# Altium footprint library rcl_PTH.PCBLIB: 348 footprints (part 3 of 22)
Each footprint in its own frame and in the unit in brackets; x right, y up, seen from the top. Pads: shape width x height; smd on the part's side, far side on the other; paste and mask are expansions set on the pad; w line width, h text height; cw(c..) or ccw(c..) is an arc to the next point about the centre after c.
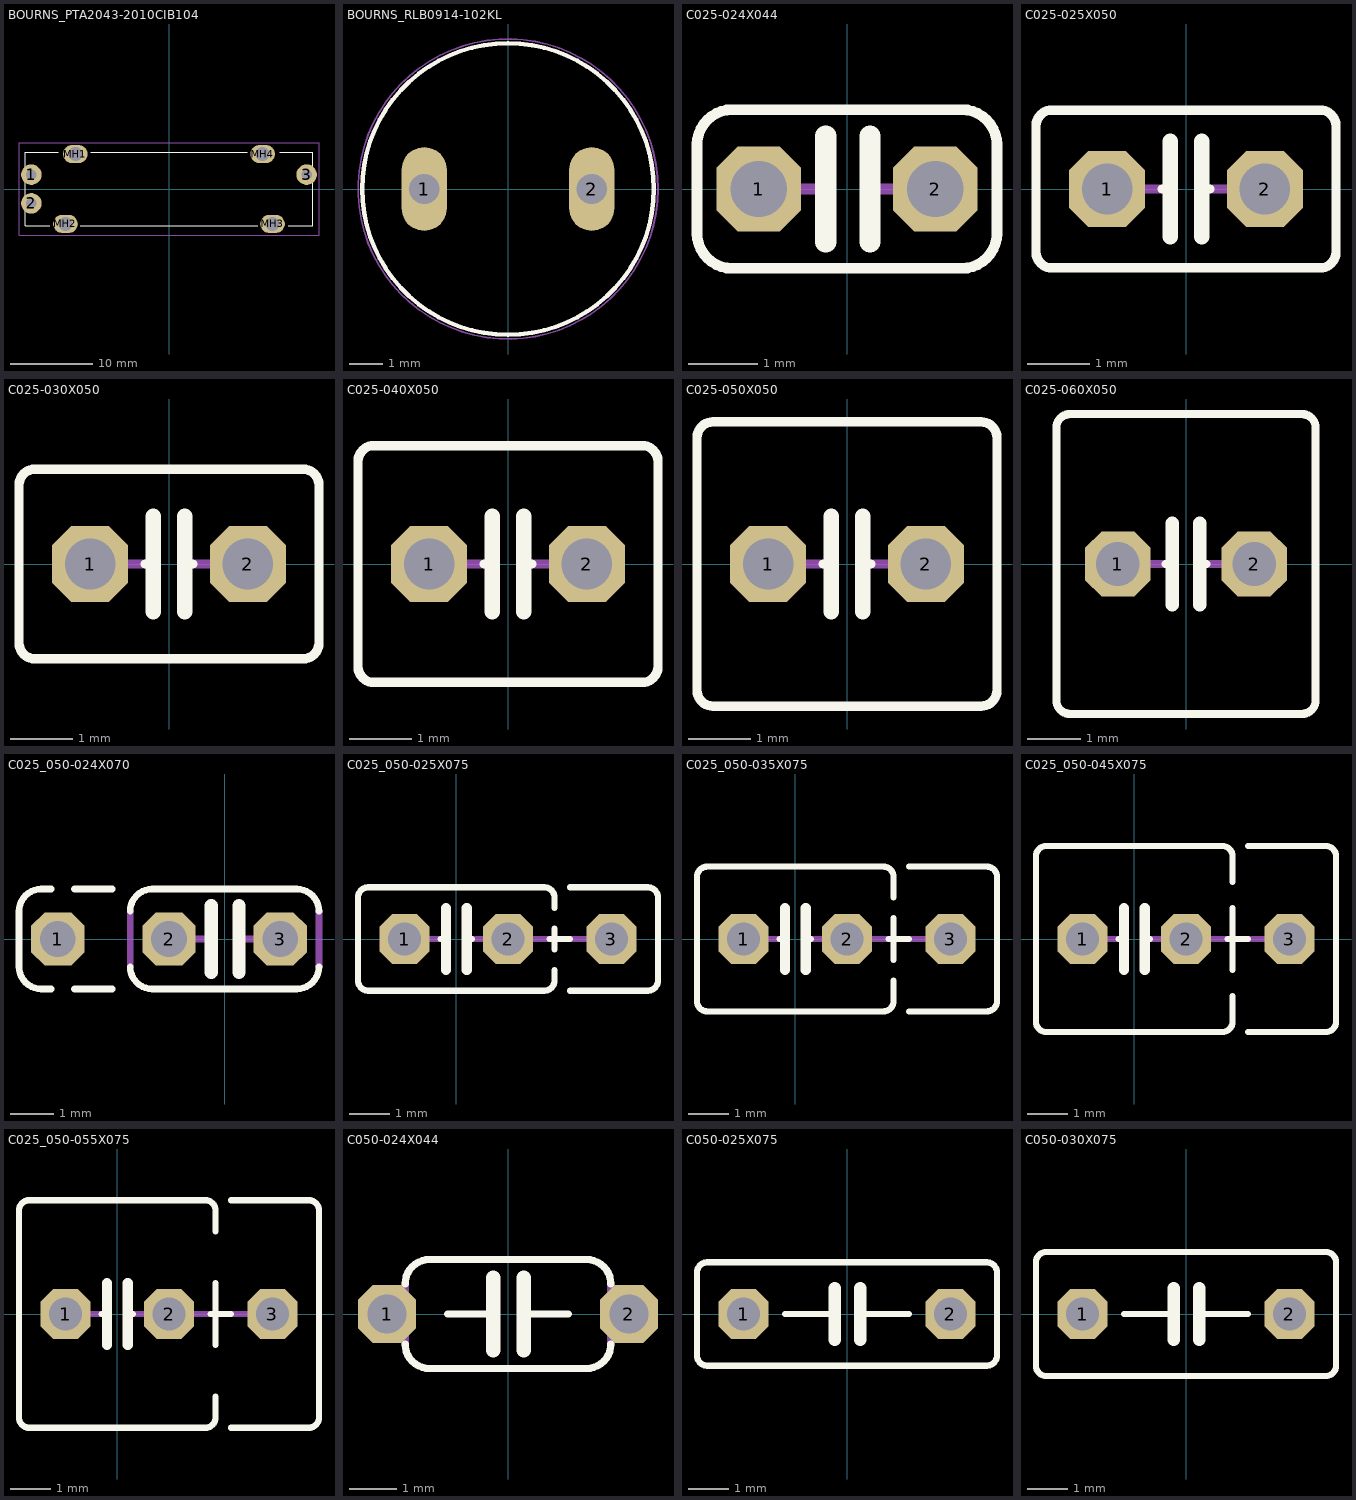
[diagram p2: the footprints below, top view; thin cyan lines are the x and y axes]

## BOURNS_PTA2043-2010CIB104 [mm] "SLIDE POT 100K OHM 0.1W TOP 20MM"
pads (7):
  round 2.5 hole 1.3 mask+0.05: 1(-16.75,1.75) 2(-16.75,-1.75) 3(16.75,1.75)
  oval 3x2.2 hole 1.7 mask+0.05: MH1(-11.4,4.25) MH2(-12.6,-4.25) MH3(12.6,-4.25) MH4(11.4,4.25)
Top Overlay:
  lines w0.127: -14.5,-4.5 -17.5,-4.5 -17.5,4.5 -13.5,4.5 ; -10.8,-4.5 10.8,-4.5 ; -9.5,4.5 9.5,4.5 ; 13.5,4.5 17.5,4.5 17.5,-4.5 14.5,-4.5
Mechanical 15:
  lines w0.05: -18.25,-5.6 -18.25,5.6 18.25,5.6 18.25,-5.6 -18.25,-5.6
3D body "PTA2043.stp": height 24.54, standoff -18.44, extent -28.812,-28.384 28.669,28.172

## BOURNS_RLB0914-102KL [mm] "FIXED IND 1MH 420MA 2.1 OHM TH, 8.7mm DIA , 13mm HEIGHT"
pads (2):
  oval 1.35x2.5 hole 0.9: 1(-2.5,0) 2(2.5,0)
Top Overlay:
  circle w0.127: c0,0 r4.35
Mechanical 1:
  circle w0.1: c0,0 r4.35
Mechanical 15:
  circle w0.05: c0,0 r4.475
3D body "rlb0914.stp": height 11.14, standoff -21, extent -4.199,-4.195 4.195,4.2

## C025-024X044 [mil]
pads (2):
  oct 48x48 hole 32: 1(-50,0) 2(50,0)
Top Overlay:
  lines w6: -85,-25 ccw(c-65,-25) -65,-45 65,-45 ccw(c65,-25) 85,-25 85,25 ccw(c65,25) 65,45 -65,45 ccw(c-65,25) -85,25 -85,-25
  lines w12: -12,-30 -12,30 ; 13,-30 13,30
Mechanical 16:
  lines w6: -50,0 -12,0 ; 13,0 50,0

## C025-025X050 [mil]
pads (2):
  oct 48x48 hole 32: 1(-50,0) 2(50,0)
Top Overlay:
  lines w6: -15,0 -10,0 ; 10,0 15,0 ; -95,-40 ccw(c-85,-40) -85,-50 85,-50 ccw(c85,-40) 95,-40 95,40 ccw(c85,40) 85,50 -85,50 ccw(c-85,40) -95,40 -95,-40
  lines w10: -10,-30 -10,0 -10,30 ; 10,-30 10,0 10,30
Mechanical 16:
  lines w6: -30,0 -15,0 ; 15,0 30,0

## C025-030X050 [mil]
pads (2):
  oct 48x48 hole 32: 1(-50,0) 2(50,0)
Top Overlay:
  lines w6: -15,0 -10,0 ; 10,0 15,0 ; -95,-50 ccw(c-85,-50) -85,-60 85,-60 ccw(c85,-50) 95,-50 95,50 ccw(c85,50) 85,60 -85,60 ccw(c-85,50) -95,50 -95,-50
  lines w10: -10,-30 -10,0 -10,30 ; 10,-30 10,0 10,30
Mechanical 16:
  lines w6: -30,0 -15,0 ; 15,0 30,0

## C025-040X050 [mil]
pads (2):
  oct 48x48 hole 32: 1(-50,0) 2(50,0)
Top Overlay:
  lines w6: -15,0 -10,0 ; 10,0 15,0 ; -95,-65 ccw(c-85,-65) -85,-75 85,-75 ccw(c85,-65) 95,-65 95,65 ccw(c85,65) 85,75 -85,75 ccw(c-85,65) -95,65 -95,-65
  lines w10: -10,-30 -10,0 -10,30 ; 10,-30 10,0 10,30
Mechanical 16:
  lines w6: -30,0 -15,0 ; 15,0 30,0

## C025-050X050 [mil]
pads (2):
  oct 48x48 hole 32: 1(-50,0) 2(50,0)
Top Overlay:
  lines w6: -15,0 -10,0 ; 10,0 15,0 ; -95,-80 ccw(c-85,-80) -85,-90 85,-90 ccw(c85,-80) 95,-80 95,80 ccw(c85,80) 85,90 -85,90 ccw(c-85,80) -95,80 -95,-80
  lines w10: -10,-30 -10,0 -10,30 ; 10,-30 10,0 10,30
Mechanical 16:
  lines w6: -30,0 -15,0 ; 15,0 30,0

## C025-060X050 [mil]
pads (2):
  oct 48x48 hole 32: 1(-50,0) 2(50,0)
Top Overlay:
  lines w6: -15,0 -10,0 ; 10,0 15,0 ; -95,-100 ccw(c-85,-100) -85,-110 85,-110 ccw(c85,-100) 95,-100 95,100 ccw(c85,100) 85,110 -85,110 ccw(c-85,100) -95,100 -95,-100
  lines w10: -10,-30 -10,0 -10,30 ; 10,-30 10,0 10,30
Mechanical 16:
  lines w6: -30,0 -15,0 ; 15,0 30,0

## C025_050-024X070 [mil]
pads (3):
  oct 48x48 hole 32: 1(-150,0) 2(-50,0) 3(50,0)
Top Overlay:
  lines w6: -156,-45 -165,-45 cw(c-165,-25) -185,-25 -185,25 cw(c-165,25) -165,45 -156,45 ; -135,-45 -101,-45 ; -135,45 -101,45 ; -85,-25 ccw(c-65,-25) -65,-45 65,-45 ccw(c65,-25) 85,-25 ; -85,25 cw(c-65,25) -65,45 65,45 cw(c65,25) 85,25
  lines w12: -12,-30 -12,30 ; 13,-30 13,30
Mechanical 16:
  lines w6: -85,-25 -85,25 ; -50,0 -12,0 ; 13,0 50,0 ; 85,-25 85,25

## C025_050-025X075 [mil]
pads (3):
  oct 48x48 hole 32: 1(-50,0) 2(50,0) 3(150,0)
Top Overlay:
  lines w6: -15,0 -10,0 ; 10,0 15,0 ; 90,0 110,0 ; 95,-30 95,-40 cw(c85,-40) 85,-50 -85,-50 cw(c-85,-40) -95,-40 -95,40 cw(c-85,40) -85,50 85,50 cw(c85,40) 95,40 95,30 ; 95,-10 95,10 ; 110,-50 185,-50 ccw(c185,-40) 195,-40 195,40 ccw(c185,40) 185,50 110,50
  lines w10: -10,-30 -10,0 -10,30 ; 10,-30 10,0 10,30
Mechanical 16:
  lines w6: -30,0 -15,0 ; 15,0 30,0 ; 70,0 90,0 ; 110,0 130,0

## C025_050-035X075 [mil]
pads (3):
  oct 48x48 hole 32: 1(-50,0) 2(50,0) 3(150,0)
Top Overlay:
  lines w6: -15,0 -10,0 ; 10,0 15,0 ; 90,0 110,0 ; 95,-40 95,-60 cw(c85,-60) 85,-70 -85,-70 cw(c-85,-60) -95,-60 -95,60 cw(c-85,60) -85,70 85,70 cw(c85,60) 95,60 95,40 ; 95,-20 95,20 ; 110,-70 185,-70 ccw(c185,-60) 195,-60 195,60 ccw(c185,60) 185,70 110,70
  lines w10: -10,-30 -10,0 -10,30 ; 10,-30 10,0 10,30
Mechanical 16:
  lines w6: -30,0 -15,0 ; 15,0 30,0 ; 70,0 90,0 ; 110,0 130,0

## C025_050-045X075 [mil]
pads (3):
  oct 48x48 hole 32: 1(-50,0) 2(50,0) 3(150,0)
Top Overlay:
  lines w6: -15,0 -10,0 ; 10,0 15,0 ; 90,0 110,0 ; 95,-55 95,-80 cw(c85,-80) 85,-90 -85,-90 cw(c-85,-80) -95,-80 -95,80 cw(c-85,80) -85,90 85,90 cw(c85,80) 95,80 95,55 ; 95,-30 95,30 ; 110,-90 185,-90 ccw(c185,-80) 195,-80 195,80 ccw(c185,80) 185,90 110,90
  lines w10: -10,-30 -10,0 -10,30 ; 10,-30 10,0 10,30
Mechanical 16:
  lines w6: -30,0 -15,0 ; 15,0 30,0 ; 70,0 90,0 ; 110,0 130,0

## C025_050-055X075 [mil]
pads (3):
  oct 48x48 hole 32: 1(-50,0) 2(50,0) 3(150,0)
Top Overlay:
  lines w6: -15,0 -10,0 ; 10,0 15,0 ; 90,0 110,0 ; 95,-80 95,-100 cw(c85,-100) 85,-110 -85,-110 cw(c-85,-100) -95,-100 -95,100 cw(c-85,100) -85,110 85,110 cw(c85,100) 95,100 95,80 ; 95,-30 95,30 ; 110,-110 185,-110 ccw(c185,-100) 195,-100 195,100 ccw(c185,100) 185,110 110,110
  lines w10: -10,-30 -10,0 -10,30 ; 10,-30 10,0 10,30
Mechanical 16:
  lines w6: -30,0 -15,0 ; 15,0 30,0 ; 70,0 90,0 ; 110,0 130,0

## C050-024X044 [mil]
pads (2):
  oct 48x48 hole 32: 1(-100,0) 2(100,0)
Top Overlay:
  lines w6: -85,-25 ccw(c-65,-25) -65,-45 65,-45 ccw(c65,-25) 85,-25 ; -85,25 cw(c-65,25) -65,45 65,45 cw(c65,25) 85,25 ; -50,0 -12,0 ; 13,0 50,0
  lines w12: -12,-30 -12,0 -12,30 ; 13,-30 13,0 13,30
Mechanical 16:
  rectangle: 85,-15 100,15
  rectangle: -100,-15 -85,15
  lines w6: -85,-25 -85,25 ; 85,-25 85,25

## C050-025X075 [mil]
pads (2):
  oct 48x48 hole 32: 1(-100,0) 2(100,0)
Top Overlay:
  lines w6: -60,0 -12,0 ; 13,0 60,0 ; -145,-40 ccw(c-135,-40) -135,-50 135,-50 ccw(c135,-40) 145,-40 145,40 ccw(c135,40) 135,50 -135,50 ccw(c-135,40) -145,40 -145,-40
  lines w12: -12,-25 -12,0 -12,25 ; 13,-25 13,0 13,25

## C050-030X075 [mil]
pads (2):
  oct 48x48 hole 32: 1(-100,0) 2(100,0)
Top Overlay:
  lines w6: -60,0 -12,0 ; 13,0 60,0 ; -145,-50 ccw(c-135,-50) -135,-60 135,-60 ccw(c135,-50) 145,-50 145,50 ccw(c135,50) 135,60 -135,60 ccw(c-135,50) -145,50 -145,-50
  lines w12: -12,-25 -12,0 -12,25 ; 13,-25 13,0 13,25